# EAGLE library part 406541-5 (library con-amp)
MOD JACK R/A 8P8C SHIELDED
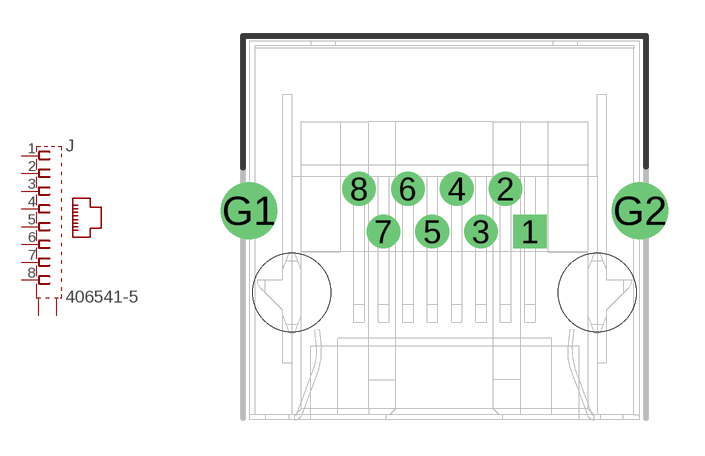
[diagram p140: symbol with the pads of 406541-5; footprint 406541-5]

Designator prefix J

## 406541-5  [406541-5]
1  1  pas
2  2  pas
3  3  pas
4  4  pas
5  5  pas
6  6  pas
7  7  pas
8  8  pas
G1  S1  pas
G2  S2  pas

## Footprint 406541-5 (pad centres in mm)
CONN MOD JACK R/A 8P8C SHIELDED
drill 0.889 square: 1 3.556,2.54
drill 0.889: 2 2.54,4.318; 3 1.524,2.54; 4 0.508,4.318; 5 -0.508,2.54; 6 -1.524,4.318; 7 -2.54,2.54; 8 -3.556,4.318
drill 1.575 pad 2.184: G1 -8.13,3.404; G2 8.13,3.404
hole 3.25 at -6.35,0
hole 3.25 at 6.35,0